# Altium footprint library CURRENT_SENS_VERT.PcbLib: 1 footprints
Each footprint in its own frame and in the unit in brackets; x right, y up, seen from the top. Pads: shape width x height; smd on the part's side, far side on the other; paste and mask are expansions set on the pad; w line width, h text height; cw(c..) or ccw(c..) is an arc to the next point about the centre after c.
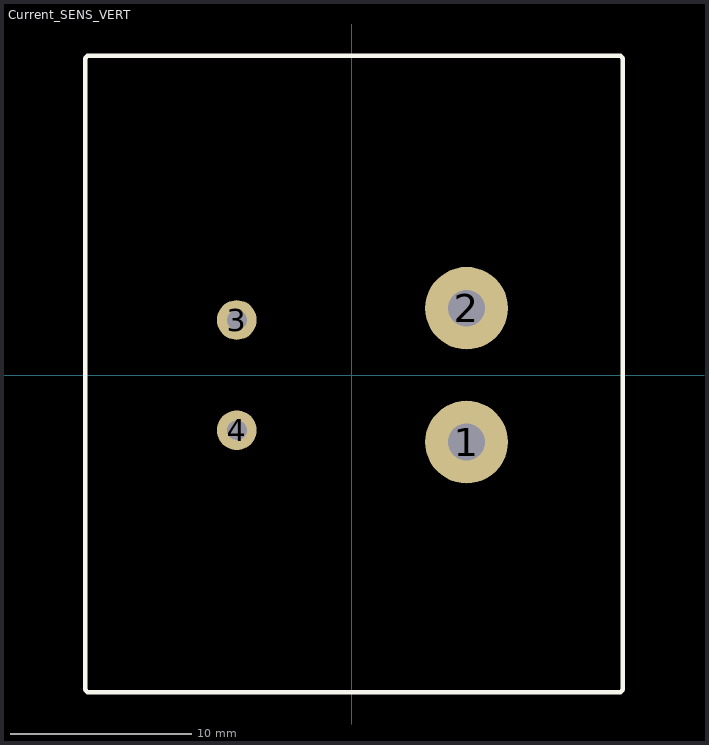
[diagram p0: the footprint, top view; thin cyan lines are the x and y axes]

## Current_SENS_VERT [mm]
pads (4):
  round 4.572 hole 2.032: 1(6.35,-3.7) 2(6.35,3.7)
  round 2.2 hole 1.1: 3(-6.35,3.048) 4(-6.35,-3.048)
Top Overlay:
  lines w0.254: -14.732,-17.399 -14.732,17.526 -14.605,17.653 14.859,17.653 14.986,17.526 14.986,-17.399 14.859,-17.526 -14.605,-17.526 -14.732,-17.399
3D body "Current sensor (vert).STEP": height 38.55, standoff -1, extent -14.75,-17.53 15.058,17.53